# Altium footprint library 43650-0415.PcbLib: 1 footprints
Each footprint in its own frame and in the unit in brackets; x right, y up, seen from the top. Pads: shape width x height; smd on the part's side, far side on the other; paste and mask are expansions set on the pad; w line width, h text height; cw(c..) or ccw(c..) is an arc to the next point about the centre after c.
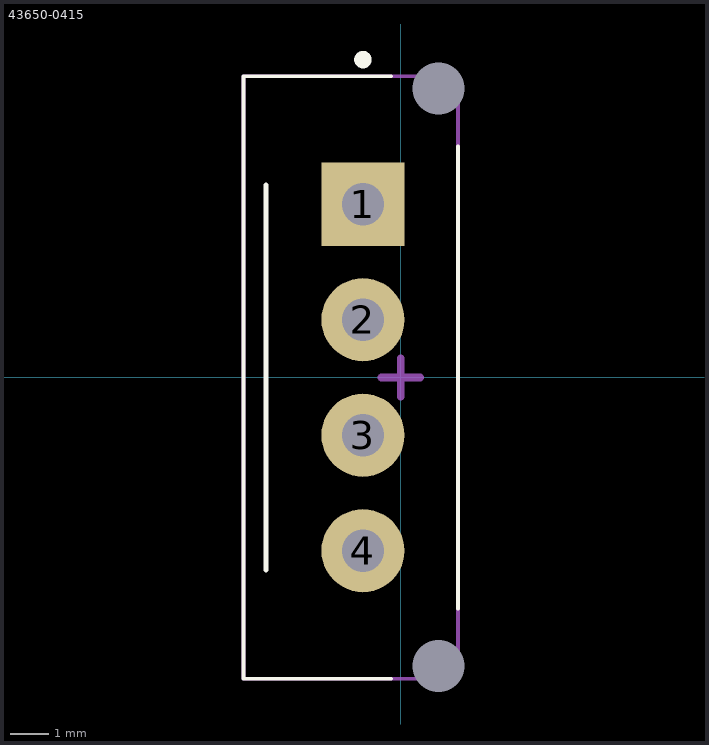
[diagram p0: the footprint, top view; thin cyan lines are the x and y axes]

## 43650-0415 [mm]
pads (6):
  rect 2.159x2.159 hole 1.1 mask+0.051: 1(-0.98,4.5)
  round 2.159 hole 1.1 mask+0.051: 2(-0.98,1.5) 3(-0.98,-1.5) 4(-0.98,-4.5)
  round 0 hole 1.35: M1(0.98,7.5) M2(0.98,-7.5)
Top Overlay:
  circle w0.254: c-0.98,8.255 r0.1
  lines w0.1: -0.25,-7.825 -4.08,-7.825 -4.08,7.825 -0.25,7.825 ; 1.49,-6 1.49,6
  lines w0.127: -3.5,-5 -3.5,5
Mechanical 13:
  lines w0.1: -4.08,-7.825 -4.08,7.825 1.49,7.825 1.49,-7.825 -4.08,-7.825
Mechanical 15:
  lines w0.2: -0.5,0 0.5,0 ; 0,-0.5 0,0.5
3D body "436500415.stp": height 9.91, standoff -3.17, extent -4.075,-7.825 1.495,7.825